# Altium integrated library Microchip Power Mgt Switching Regulator.IntLib: 268 symbols (part 6 of 6)
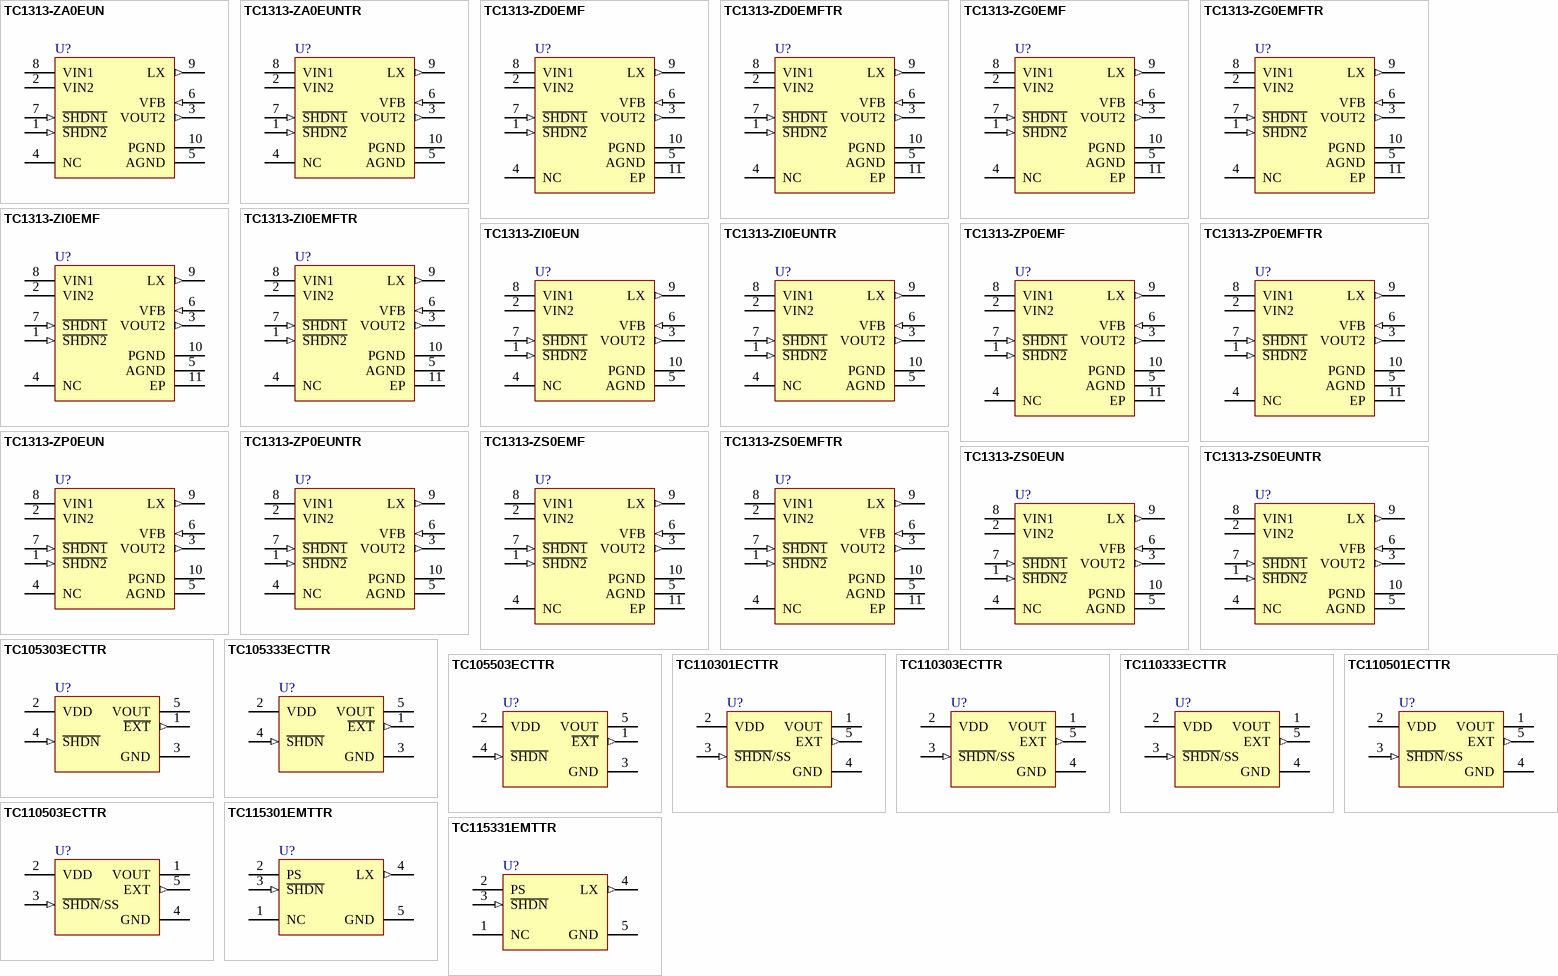
[diagram p11: symbols TC1313-ZA0EUN to TC115331EMTTR]

## TC1313-ZA0EUN
designator U?
300mA Synchronous Buck Regulator + 300mA LDO, Adjustable, 3.3V, 10-Pin MSOP, Industrial Temperature; Published: 29-Jan-2009; DatasheetVersion: revA, Jul-2005; PackageVersion: revAW, Oct-2008; PackageReference: MSOP-UN10; Publisher: Altium Limited; PackageDescription: 10-Lead Plastic Micro Small Outline Package (UN) [MSOP]; ComponentLink1Description: Manufacturer Link; ComponentLink1URL: http://www.microchip.com; ComponentLink2Description: Datasheet; ComponentLink2URL: http://ww1.microchip.com/downloads/en/DeviceDoc/21974a.pdf; ComponentLink3Description: Packaging Specification; ComponentLink3URL: http://ww1.microchip.com/downloads/en/PackagingSpec/00049AW.pdf
footprint MSOP-UN10_N (TSSOP, 10-Leads, Body 3x3mm, Pitch 0.5mm, IPC Medium Density)
footprint MSOP-UN10_L (TSSOP, 10-Leads, Body 3x3mm, Pitch 0.5mm, IPC High Density)
footprint MSOP-UN10_M (TSSOP, 10-Leads, Body 3x3mm, Pitch 0.5mm, IPC Low Density)
pins: 1 ~{SHDN2} (in), 2 VIN2 (power), 3 VOUT2 (out), 4 NC, 5 AGND (power), 6 VFB (in), 7 ~{SHDN1} (in), 8 VIN1 (power), 9 LX (out), 10 PGND (power)

## TC1313-ZA0EUNTR
designator U?
300mA Synchronous Buck Regulator + 300mA LDO, Adjustable, 3.3V, 10-Pin MSOP, Industrial Temperature, Tape and Reel; Published: 29-Jan-2009; DatasheetVersion: revA, Jul-2005; PackageVersion: revAW, Oct-2008; PackageReference: MSOP-UN10; Publisher: Altium Limited; PackageDescription: 10-Lead Plastic Micro Small Outline Package (UN) [MSOP]; ComponentLink1Description: Manufacturer Link; ComponentLink1URL: http://www.microchip.com; ComponentLink2Description: Datasheet; ComponentLink2URL: http://ww1.microchip.com/downloads/en/DeviceDoc/21974a.pdf; ComponentLink3Description: Packaging Specification; ComponentLink3URL: http://ww1.microchip.com/downloads/en/PackagingSpec/00049AW.pdf
footprint MSOP-UN10_N (TSSOP, 10-Leads, Body 3x3mm, Pitch 0.5mm, IPC Medium Density)
footprint MSOP-UN10_L (TSSOP, 10-Leads, Body 3x3mm, Pitch 0.5mm, IPC High Density)
footprint MSOP-UN10_M (TSSOP, 10-Leads, Body 3x3mm, Pitch 0.5mm, IPC Low Density)
pins: 1 ~{SHDN2} (in), 2 VIN2 (power), 3 VOUT2 (out), 4 NC, 5 AGND (power), 6 VFB (in), 7 ~{SHDN1} (in), 8 VIN1 (power), 9 LX (out), 10 PGND (power)

## TC1313-ZD0EMF
designator U?
300mA Synchronous Buck Regulator + 300mA LDO, Adjustable, 3.0V, 10-Pin DFN, Industrial Temperature; Published: 29-Jan-2009; DatasheetVersion: revA, Jul-2005; PackageVersion: revAW, Oct-2008; PackageReference: DFN-MF10; Publisher: Altium Limited; PackageDescription: 10-Lead Plastic Dual Flat, No Lead Package (MF) - 3x3x0.9mm Body [DFN]; ComponentLink1Description: Manufacturer Link; ComponentLink1URL: http://www.microchip.com; ComponentLink2Description: Datasheet; ComponentLink2URL: http://ww1.microchip.com/downloads/en/DeviceDoc/21974a.pdf; ComponentLink3Description: Packaging Specification; ComponentLink3URL: http://ww1.microchip.com/downloads/en/PackagingSpec/00049AW.pdf
footprint DFN-MF10 (SON, 10-Leads, Body 3x3mm, Pitch 0.5mm, Microchip Recommended)
pins: 1 ~{SHDN2} (in), 2 VIN2 (power), 3 VOUT2 (out), 4 NC, 5 AGND (power), 6 VFB (in), 7 ~{SHDN1} (in), 8 VIN1 (power), 9 LX (out), 10 PGND (power), 11 EP (power)

## TC1313-ZD0EMFTR
designator U?
300mA Synchronous Buck Regulator + 300mA LDO, Adjustable, 3.0V, 10-Pin DFN, Industrial Temperature, Tape and Reel; Published: 29-Jan-2009; DatasheetVersion: revA, Jul-2005; PackageVersion: revAW, Oct-2008; PackageReference: DFN-MF10; Publisher: Altium Limited; PackageDescription: 10-Lead Plastic Dual Flat, No Lead Package (MF) - 3x3x0.9mm Body [DFN]; ComponentLink1Description: Manufacturer Link; ComponentLink1URL: http://www.microchip.com; ComponentLink2Description: Datasheet; ComponentLink2URL: http://ww1.microchip.com/downloads/en/DeviceDoc/21974a.pdf; ComponentLink3Description: Packaging Specification; ComponentLink3URL: http://ww1.microchip.com/downloads/en/PackagingSpec/00049AW.pdf
footprint DFN-MF10 (SON, 10-Leads, Body 3x3mm, Pitch 0.5mm, Microchip Recommended)
pins: 1 ~{SHDN2} (in), 2 VIN2 (power), 3 VOUT2 (out), 4 NC, 5 AGND (power), 6 VFB (in), 7 ~{SHDN1} (in), 8 VIN1 (power), 9 LX (out), 10 PGND (power), 11 EP (power)

## TC1313-ZG0EMF
designator U?
300mA Synchronous Buck Regulator + 300mA LDO, Adjustable, 2.7V, 10-Pin DFN, Industrial Temperature; Published: 29-Jan-2009; DatasheetVersion: revA, Jul-2005; PackageVersion: revAW, Oct-2008; PackageReference: DFN-MF10; Publisher: Altium Limited; PackageDescription: 10-Lead Plastic Dual Flat, No Lead Package (MF) - 3x3x0.9mm Body [DFN]; ComponentLink1Description: Manufacturer Link; ComponentLink1URL: http://www.microchip.com; ComponentLink2Description: Datasheet; ComponentLink2URL: http://ww1.microchip.com/downloads/en/DeviceDoc/21974a.pdf; ComponentLink3Description: Packaging Specification; ComponentLink3URL: http://ww1.microchip.com/downloads/en/PackagingSpec/00049AW.pdf
footprint DFN-MF10 (SON, 10-Leads, Body 3x3mm, Pitch 0.5mm, Microchip Recommended)
pins: 1 ~{SHDN2} (in), 2 VIN2 (power), 3 VOUT2 (out), 4 NC, 5 AGND (power), 6 VFB (in), 7 ~{SHDN1} (in), 8 VIN1 (power), 9 LX (out), 10 PGND (power), 11 EP (power)

## TC1313-ZG0EMFTR
designator U?
300mA Synchronous Buck Regulator + 300mA LDO, Adjustable, 2.7V, 10-Pin DFN, Industrial Temperature, Tape and Reel; Published: 29-Jan-2009; DatasheetVersion: revA, Jul-2005; PackageVersion: revAW, Oct-2008; PackageReference: DFN-MF10; Publisher: Altium Limited; PackageDescription: 10-Lead Plastic Dual Flat, No Lead Package (MF) - 3x3x0.9mm Body [DFN]; ComponentLink1Description: Manufacturer Link; ComponentLink1URL: http://www.microchip.com; ComponentLink2Description: Datasheet; ComponentLink2URL: http://ww1.microchip.com/downloads/en/DeviceDoc/21974a.pdf; ComponentLink3Description: Packaging Specification; ComponentLink3URL: http://ww1.microchip.com/downloads/en/PackagingSpec/00049AW.pdf
footprint DFN-MF10 (SON, 10-Leads, Body 3x3mm, Pitch 0.5mm, Microchip Recommended)
pins: 1 ~{SHDN2} (in), 2 VIN2 (power), 3 VOUT2 (out), 4 NC, 5 AGND (power), 6 VFB (in), 7 ~{SHDN1} (in), 8 VIN1 (power), 9 LX (out), 10 PGND (power), 11 EP (power)

## TC1313-ZI0EMF
designator U?
300mA Synchronous Buck Regulator + 300mA LDO, Adjustable, 2.5V, 10-Pin DFN, Industrial Temperature; Published: 29-Jan-2009; DatasheetVersion: revA, Jul-2005; PackageVersion: revAW, Oct-2008; PackageReference: DFN-MF10; Publisher: Altium Limited; PackageDescription: 10-Lead Plastic Dual Flat, No Lead Package (MF) - 3x3x0.9mm Body [DFN]; ComponentLink1Description: Manufacturer Link; ComponentLink1URL: http://www.microchip.com; ComponentLink2Description: Datasheet; ComponentLink2URL: http://ww1.microchip.com/downloads/en/DeviceDoc/21974a.pdf; ComponentLink3Description: Packaging Specification; ComponentLink3URL: http://ww1.microchip.com/downloads/en/PackagingSpec/00049AW.pdf
footprint DFN-MF10 (SON, 10-Leads, Body 3x3mm, Pitch 0.5mm, Microchip Recommended)
pins: 1 ~{SHDN2} (in), 2 VIN2 (power), 3 VOUT2 (out), 4 NC, 5 AGND (power), 6 VFB (in), 7 ~{SHDN1} (in), 8 VIN1 (power), 9 LX (out), 10 PGND (power), 11 EP (power)

## TC1313-ZI0EMFTR
designator U?
300mA Synchronous Buck Regulator + 300mA LDO, Adjustable, 2.5V, 10-Pin DFN, Industrial Temperature, Tape and Reel; Published: 29-Jan-2009; DatasheetVersion: revA, Jul-2005; PackageVersion: revAW, Oct-2008; PackageReference: DFN-MF10; Publisher: Altium Limited; PackageDescription: 10-Lead Plastic Dual Flat, No Lead Package (MF) - 3x3x0.9mm Body [DFN]; ComponentLink1Description: Manufacturer Link; ComponentLink1URL: http://www.microchip.com; ComponentLink2Description: Datasheet; ComponentLink2URL: http://ww1.microchip.com/downloads/en/DeviceDoc/21974a.pdf; ComponentLink3Description: Packaging Specification; ComponentLink3URL: http://ww1.microchip.com/downloads/en/PackagingSpec/00049AW.pdf
footprint DFN-MF10 (SON, 10-Leads, Body 3x3mm, Pitch 0.5mm, Microchip Recommended)
pins: 1 ~{SHDN2} (in), 2 VIN2 (power), 3 VOUT2 (out), 4 NC, 5 AGND (power), 6 VFB (in), 7 ~{SHDN1} (in), 8 VIN1 (power), 9 LX (out), 10 PGND (power), 11 EP (power)

## TC1313-ZI0EUN
designator U?
300mA Synchronous Buck Regulator + 300mA LDO, Adjustable, 2.5V, 10-Pin MSOP, Industrial Temperature; Published: 29-Jan-2009; DatasheetVersion: revA, Jul-2005; PackageVersion: revAW, Oct-2008; PackageReference: MSOP-UN10; Publisher: Altium Limited; PackageDescription: 10-Lead Plastic Micro Small Outline Package (UN) [MSOP]; ComponentLink1Description: Manufacturer Link; ComponentLink1URL: http://www.microchip.com; ComponentLink2Description: Datasheet; ComponentLink2URL: http://ww1.microchip.com/downloads/en/DeviceDoc/21974a.pdf; ComponentLink3Description: Packaging Specification; ComponentLink3URL: http://ww1.microchip.com/downloads/en/PackagingSpec/00049AW.pdf
footprint MSOP-UN10_N (TSSOP, 10-Leads, Body 3x3mm, Pitch 0.5mm, IPC Medium Density)
footprint MSOP-UN10_L (TSSOP, 10-Leads, Body 3x3mm, Pitch 0.5mm, IPC High Density)
footprint MSOP-UN10_M (TSSOP, 10-Leads, Body 3x3mm, Pitch 0.5mm, IPC Low Density)
pins: 1 ~{SHDN2} (in), 2 VIN2 (power), 3 VOUT2 (out), 4 NC, 5 AGND (power), 6 VFB (in), 7 ~{SHDN1} (in), 8 VIN1 (power), 9 LX (out), 10 PGND (power)

## TC1313-ZI0EUNTR
designator U?
300mA Synchronous Buck Regulator + 300mA LDO, Adjustable, 2.5V, 10-Pin MSOP, Industrial Temperature, Tape and Reel; Published: 29-Jan-2009; DatasheetVersion: revA, Jul-2005; PackageVersion: revAW, Oct-2008; PackageReference: MSOP-UN10; Publisher: Altium Limited; PackageDescription: 10-Lead Plastic Micro Small Outline Package (UN) [MSOP]; ComponentLink1Description: Manufacturer Link; ComponentLink1URL: http://www.microchip.com; ComponentLink2Description: Datasheet; ComponentLink2URL: http://ww1.microchip.com/downloads/en/DeviceDoc/21974a.pdf; ComponentLink3Description: Packaging Specification; ComponentLink3URL: http://ww1.microchip.com/downloads/en/PackagingSpec/00049AW.pdf
footprint MSOP-UN10_N (TSSOP, 10-Leads, Body 3x3mm, Pitch 0.5mm, IPC Medium Density)
footprint MSOP-UN10_L (TSSOP, 10-Leads, Body 3x3mm, Pitch 0.5mm, IPC High Density)
footprint MSOP-UN10_M (TSSOP, 10-Leads, Body 3x3mm, Pitch 0.5mm, IPC Low Density)
pins: 1 ~{SHDN2} (in), 2 VIN2 (power), 3 VOUT2 (out), 4 NC, 5 AGND (power), 6 VFB (in), 7 ~{SHDN1} (in), 8 VIN1 (power), 9 LX (out), 10 PGND (power)

## TC1313-ZP0EMF
designator U?
300mA Synchronous Buck Regulator + 300mA LDO, Adjustable, 1.8V, 10-Pin DFN, Industrial Temperature; Published: 29-Jan-2009; DatasheetVersion: revA, Jul-2005; PackageVersion: revAW, Oct-2008; PackageReference: DFN-MF10; Publisher: Altium Limited; PackageDescription: 10-Lead Plastic Dual Flat, No Lead Package (MF) - 3x3x0.9mm Body [DFN]; ComponentLink1Description: Manufacturer Link; ComponentLink1URL: http://www.microchip.com; ComponentLink2Description: Datasheet; ComponentLink2URL: http://ww1.microchip.com/downloads/en/DeviceDoc/21974a.pdf; ComponentLink3Description: Packaging Specification; ComponentLink3URL: http://ww1.microchip.com/downloads/en/PackagingSpec/00049AW.pdf
footprint DFN-MF10 (SON, 10-Leads, Body 3x3mm, Pitch 0.5mm, Microchip Recommended)
pins: 1 ~{SHDN2} (in), 2 VIN2 (power), 3 VOUT2 (out), 4 NC, 5 AGND (power), 6 VFB (in), 7 ~{SHDN1} (in), 8 VIN1 (power), 9 LX (out), 10 PGND (power), 11 EP (power)

## TC1313-ZP0EMFTR
designator U?
300mA Synchronous Buck Regulator + 300mA LDO, Adjustable, 1.8V, 10-Pin DFN, Industrial Temperature, Tape and Reel; Published: 29-Jan-2009; DatasheetVersion: revA, Jul-2005; PackageVersion: revAW, Oct-2008; PackageReference: DFN-MF10; Publisher: Altium Limited; PackageDescription: 10-Lead Plastic Dual Flat, No Lead Package (MF) - 3x3x0.9mm Body [DFN]; ComponentLink1Description: Manufacturer Link; ComponentLink1URL: http://www.microchip.com; ComponentLink2Description: Datasheet; ComponentLink2URL: http://ww1.microchip.com/downloads/en/DeviceDoc/21974a.pdf; ComponentLink3Description: Packaging Specification; ComponentLink3URL: http://ww1.microchip.com/downloads/en/PackagingSpec/00049AW.pdf
footprint DFN-MF10 (SON, 10-Leads, Body 3x3mm, Pitch 0.5mm, Microchip Recommended)
pins: 1 ~{SHDN2} (in), 2 VIN2 (power), 3 VOUT2 (out), 4 NC, 5 AGND (power), 6 VFB (in), 7 ~{SHDN1} (in), 8 VIN1 (power), 9 LX (out), 10 PGND (power), 11 EP (power)

## TC1313-ZP0EUN
designator U?
300mA Synchronous Buck Regulator + 300mA LDO, Adjustable, 1.8V, 10-Pin MSOP, Industrial Temperature; Published: 29-Jan-2009; DatasheetVersion: revA, Jul-2005; PackageVersion: revAW, Oct-2008; PackageReference: MSOP-UN10; Publisher: Altium Limited; PackageDescription: 10-Lead Plastic Micro Small Outline Package (UN) [MSOP]; ComponentLink1Description: Manufacturer Link; ComponentLink1URL: http://www.microchip.com; ComponentLink2Description: Datasheet; ComponentLink2URL: http://ww1.microchip.com/downloads/en/DeviceDoc/21974a.pdf; ComponentLink3Description: Packaging Specification; ComponentLink3URL: http://ww1.microchip.com/downloads/en/PackagingSpec/00049AW.pdf
footprint MSOP-UN10_N (TSSOP, 10-Leads, Body 3x3mm, Pitch 0.5mm, IPC Medium Density)
footprint MSOP-UN10_L (TSSOP, 10-Leads, Body 3x3mm, Pitch 0.5mm, IPC High Density)
footprint MSOP-UN10_M (TSSOP, 10-Leads, Body 3x3mm, Pitch 0.5mm, IPC Low Density)
pins: 1 ~{SHDN2} (in), 2 VIN2 (power), 3 VOUT2 (out), 4 NC, 5 AGND (power), 6 VFB (in), 7 ~{SHDN1} (in), 8 VIN1 (power), 9 LX (out), 10 PGND (power)

## TC1313-ZP0EUNTR
designator U?
300mA Synchronous Buck Regulator + 300mA LDO, Adjustable, 1.8V, 10-Pin MSOP, Industrial Temperature, Tape and Reel; Published: 29-Jan-2009; DatasheetVersion: revA, Jul-2005; PackageVersion: revAW, Oct-2008; PackageReference: MSOP-UN10; Publisher: Altium Limited; PackageDescription: 10-Lead Plastic Micro Small Outline Package (UN) [MSOP]; ComponentLink1Description: Manufacturer Link; ComponentLink1URL: http://www.microchip.com; ComponentLink2Description: Datasheet; ComponentLink2URL: http://ww1.microchip.com/downloads/en/DeviceDoc/21974a.pdf; ComponentLink3Description: Packaging Specification; ComponentLink3URL: http://ww1.microchip.com/downloads/en/PackagingSpec/00049AW.pdf
footprint MSOP-UN10_N (TSSOP, 10-Leads, Body 3x3mm, Pitch 0.5mm, IPC Medium Density)
footprint MSOP-UN10_L (TSSOP, 10-Leads, Body 3x3mm, Pitch 0.5mm, IPC High Density)
footprint MSOP-UN10_M (TSSOP, 10-Leads, Body 3x3mm, Pitch 0.5mm, IPC Low Density)
pins: 1 ~{SHDN2} (in), 2 VIN2 (power), 3 VOUT2 (out), 4 NC, 5 AGND (power), 6 VFB (in), 7 ~{SHDN1} (in), 8 VIN1 (power), 9 LX (out), 10 PGND (power)

## TC1313-ZS0EMF
designator U?
300mA Synchronous Buck Regulator + 300mA LDO, Adjustable, 1.5V, 10-Pin DFN, Industrial Temperature; Published: 29-Jan-2009; DatasheetVersion: revA, Jul-2005; PackageVersion: revAW, Oct-2008; PackageReference: DFN-MF10; Publisher: Altium Limited; PackageDescription: 10-Lead Plastic Dual Flat, No Lead Package (MF) - 3x3x0.9mm Body [DFN]; ComponentLink1Description: Manufacturer Link; ComponentLink1URL: http://www.microchip.com; ComponentLink2Description: Datasheet; ComponentLink2URL: http://ww1.microchip.com/downloads/en/DeviceDoc/21974a.pdf; ComponentLink3Description: Packaging Specification; ComponentLink3URL: http://ww1.microchip.com/downloads/en/PackagingSpec/00049AW.pdf
footprint DFN-MF10 (SON, 10-Leads, Body 3x3mm, Pitch 0.5mm, Microchip Recommended)
pins: 1 ~{SHDN2} (in), 2 VIN2 (power), 3 VOUT2 (out), 4 NC, 5 AGND (power), 6 VFB (in), 7 ~{SHDN1} (in), 8 VIN1 (power), 9 LX (out), 10 PGND (power), 11 EP (power)

## TC1313-ZS0EMFTR
designator U?
300mA Synchronous Buck Regulator + 300mA LDO, Adjustable, 1.5V, 10-Pin DFN, Industrial Temperature, Tape and Reel; Published: 29-Jan-2009; DatasheetVersion: revA, Jul-2005; PackageVersion: revAW, Oct-2008; PackageReference: DFN-MF10; Publisher: Altium Limited; PackageDescription: 10-Lead Plastic Dual Flat, No Lead Package (MF) - 3x3x0.9mm Body [DFN]; ComponentLink1Description: Manufacturer Link; ComponentLink1URL: http://www.microchip.com; ComponentLink2Description: Datasheet; ComponentLink2URL: http://ww1.microchip.com/downloads/en/DeviceDoc/21974a.pdf; ComponentLink3Description: Packaging Specification; ComponentLink3URL: http://ww1.microchip.com/downloads/en/PackagingSpec/00049AW.pdf
footprint DFN-MF10 (SON, 10-Leads, Body 3x3mm, Pitch 0.5mm, Microchip Recommended)
pins: 1 ~{SHDN2} (in), 2 VIN2 (power), 3 VOUT2 (out), 4 NC, 5 AGND (power), 6 VFB (in), 7 ~{SHDN1} (in), 8 VIN1 (power), 9 LX (out), 10 PGND (power), 11 EP (power)

## TC1313-ZS0EUN
designator U?
300mA Synchronous Buck Regulator + 300mA LDO, Adjustable, 1.5V, 10-Pin MSOP, Industrial Temperature; Published: 29-Jan-2009; DatasheetVersion: revA, Jul-2005; PackageVersion: revAW, Oct-2008; PackageReference: MSOP-UN10; Publisher: Altium Limited; PackageDescription: 10-Lead Plastic Micro Small Outline Package (UN) [MSOP]; ComponentLink1Description: Manufacturer Link; ComponentLink1URL: http://www.microchip.com; ComponentLink2Description: Datasheet; ComponentLink2URL: http://ww1.microchip.com/downloads/en/DeviceDoc/21974a.pdf; ComponentLink3Description: Packaging Specification; ComponentLink3URL: http://ww1.microchip.com/downloads/en/PackagingSpec/00049AW.pdf
footprint MSOP-UN10_N (TSSOP, 10-Leads, Body 3x3mm, Pitch 0.5mm, IPC Medium Density)
footprint MSOP-UN10_L (TSSOP, 10-Leads, Body 3x3mm, Pitch 0.5mm, IPC High Density)
footprint MSOP-UN10_M (TSSOP, 10-Leads, Body 3x3mm, Pitch 0.5mm, IPC Low Density)
pins: 1 ~{SHDN2} (in), 2 VIN2 (power), 3 VOUT2 (out), 4 NC, 5 AGND (power), 6 VFB (in), 7 ~{SHDN1} (in), 8 VIN1 (power), 9 LX (out), 10 PGND (power)

## TC1313-ZS0EUNTR
designator U?
300mA Synchronous Buck Regulator + 300mA LDO, Adjustable, 1.5V, 10-Pin MSOP, Industrial Temperature, Tape and Reel; Published: 29-Jan-2009; DatasheetVersion: revA, Jul-2005; PackageVersion: revAW, Oct-2008; PackageReference: MSOP-UN10; Publisher: Altium Limited; PackageDescription: 10-Lead Plastic Micro Small Outline Package (UN) [MSOP]; ComponentLink1Description: Manufacturer Link; ComponentLink1URL: http://www.microchip.com; ComponentLink2Description: Datasheet; ComponentLink2URL: http://ww1.microchip.com/downloads/en/DeviceDoc/21974a.pdf; ComponentLink3Description: Packaging Specification; ComponentLink3URL: http://ww1.microchip.com/downloads/en/PackagingSpec/00049AW.pdf
footprint MSOP-UN10_N (TSSOP, 10-Leads, Body 3x3mm, Pitch 0.5mm, IPC Medium Density)
footprint MSOP-UN10_L (TSSOP, 10-Leads, Body 3x3mm, Pitch 0.5mm, IPC High Density)
footprint MSOP-UN10_M (TSSOP, 10-Leads, Body 3x3mm, Pitch 0.5mm, IPC Low Density)
pins: 1 ~{SHDN2} (in), 2 VIN2 (power), 3 VOUT2 (out), 4 NC, 5 AGND (power), 6 VFB (in), 7 ~{SHDN1} (in), 8 VIN1 (power), 9 LX (out), 10 PGND (power)

## TC105303ECTTR
designator U?
PFM/PWM Step-Down DC/DC Controller, 1A, 3.0V, 300kHz, 5-Pin SOT-23, Industrial Temperature, Tape and Reel; Published: 29-Jan-2009; DatasheetVersion: revB, Feb-2003; PackageVersion: revAW, Oct-2008; PackageReference: SOT-23-CT5; Publisher: Altium Limited; PackageDescription: 5-Lead Plastic Small Outline Transistor (CT) [SOT-23]; Code_IPC: SOT23-5; ComponentLink1Description: Manufacturer Link; ComponentLink1URL: http://www.microchip.com; ComponentLink2Description: Datasheet; ComponentLink2URL: http://ww1.microchip.com/downloads/en/DeviceDoc/21349b.pdf; ComponentLink3Description: Packaging Specification; ComponentLink3URL: http://ww1.microchip.com/downloads/en/PackagingSpec/00049AW.pdf
footprint SOT-23-CT5_N (SOT23, 5-Leads, Body 2.9x1.6mm, Pitch 0.95mm, Lead Span 2.7mm, IPC Medium Density)
footprint SOT-23-CT5_L (SOT23, 5-Leads, Body 2.9x1.6mm, Pitch 0.95mm, Lead Span 2.7mm, IPC High Density)
footprint SOT-23-CT5_M (SOT23, 5-Leads, Body 2.9x1.6mm, Pitch 0.95mm, Lead Span 2.7mm, IPC Low Density)
pins: 1 ~{EXT} (out), 2 VDD (power), 3 GND (power), 4 ~{SHDN} (in), 5 VOUT (power)

## TC105333ECTTR
designator U?
PFM/PWM Step-Down DC/DC Controller, 1A, 3.3V, 300kHz, 5-Pin SOT-23, Industrial Temperature, Tape and Reel; Published: 29-Jan-2009; DatasheetVersion: revB, Feb-2003; PackageVersion: revAW, Oct-2008; PackageReference: SOT-23-CT5; Publisher: Altium Limited; PackageDescription: 5-Lead Plastic Small Outline Transistor (CT) [SOT-23]; Code_IPC: SOT23-5; ComponentLink1Description: Manufacturer Link; ComponentLink1URL: http://www.microchip.com; ComponentLink2Description: Datasheet; ComponentLink2URL: http://ww1.microchip.com/downloads/en/DeviceDoc/21349b.pdf; ComponentLink3Description: Packaging Specification; ComponentLink3URL: http://ww1.microchip.com/downloads/en/PackagingSpec/00049AW.pdf
footprint SOT-23-CT5_N (SOT23, 5-Leads, Body 2.9x1.6mm, Pitch 0.95mm, Lead Span 2.7mm, IPC Medium Density)
footprint SOT-23-CT5_L (SOT23, 5-Leads, Body 2.9x1.6mm, Pitch 0.95mm, Lead Span 2.7mm, IPC High Density)
footprint SOT-23-CT5_M (SOT23, 5-Leads, Body 2.9x1.6mm, Pitch 0.95mm, Lead Span 2.7mm, IPC Low Density)
pins: 1 ~{EXT} (out), 2 VDD (power), 3 GND (power), 4 ~{SHDN} (in), 5 VOUT (power)

## TC105503ECTTR
designator U?
PFM/PWM Step-Down DC/DC Controller, 1A, 5.0V, 300kHz, 5-Pin SOT-23, Industrial Temperature, Tape and Reel; Published: 29-Jan-2009; DatasheetVersion: revB, Feb-2003; PackageVersion: revAW, Oct-2008; PackageReference: SOT-23-CT5; Publisher: Altium Limited; PackageDescription: 5-Lead Plastic Small Outline Transistor (CT) [SOT-23]; Code_IPC: SOT23-5; ComponentLink1Description: Manufacturer Link; ComponentLink1URL: http://www.microchip.com; ComponentLink2Description: Datasheet; ComponentLink2URL: http://ww1.microchip.com/downloads/en/DeviceDoc/21349b.pdf; ComponentLink3Description: Packaging Specification; ComponentLink3URL: http://ww1.microchip.com/downloads/en/PackagingSpec/00049AW.pdf
footprint SOT-23-CT5_N (SOT23, 5-Leads, Body 2.9x1.6mm, Pitch 0.95mm, Lead Span 2.7mm, IPC Medium Density)
footprint SOT-23-CT5_L (SOT23, 5-Leads, Body 2.9x1.6mm, Pitch 0.95mm, Lead Span 2.7mm, IPC High Density)
footprint SOT-23-CT5_M (SOT23, 5-Leads, Body 2.9x1.6mm, Pitch 0.95mm, Lead Span 2.7mm, IPC Low Density)
pins: 1 ~{EXT} (out), 2 VDD (power), 3 GND (power), 4 ~{SHDN} (in), 5 VOUT (power)

## TC110301ECTTR
designator U?
PFM/PWM Step-Up DC/DC Controller, 3.0V, 100kHz, 5-Pin SOT-23, Industrial Temperature, Tape and Reel; Published: 29-Jan-2009; DatasheetVersion: revB, Feb-2003; PackageVersion: revAW, Oct-2008; PackageReference: SOT-23-CT5; Publisher: Altium Limited; PackageDescription: 5-Lead Plastic Small Outline Transistor (CT) [SOT-23]; Code_IPC: SOT23-5; ComponentLink1Description: Manufacturer Link; ComponentLink1URL: http://www.microchip.com; ComponentLink2Description: Datasheet; ComponentLink2URL: http://ww1.microchip.com/downloads/en/DeviceDoc/21355b.pdf; ComponentLink3Description: Packaging Specification; ComponentLink3URL: http://ww1.microchip.com/downloads/en/PackagingSpec/00049AW.pdf
footprint SOT-23-CT5_N (SOT23, 5-Leads, Body 2.9x1.6mm, Pitch 0.95mm, Lead Span 2.7mm, IPC Medium Density)
footprint SOT-23-CT5_L (SOT23, 5-Leads, Body 2.9x1.6mm, Pitch 0.95mm, Lead Span 2.7mm, IPC High Density)
footprint SOT-23-CT5_M (SOT23, 5-Leads, Body 2.9x1.6mm, Pitch 0.95mm, Lead Span 2.7mm, IPC Low Density)
pins: 1 VOUT (power), 2 VDD (power), 3 ~{SHDN}/SS (in), 4 GND (power), 5 EXT (out)

## TC110303ECTTR
designator U?
PFM/PWM Step-Up DC/DC Controller, 3.0V, 300kHz, 5-Pin SOT-23, Industrial Temperature, Tape and Reel; Published: 29-Jan-2009; DatasheetVersion: revB, Feb-2003; PackageVersion: revAW, Oct-2008; PackageReference: SOT-23-CT5; Publisher: Altium Limited; PackageDescription: 5-Lead Plastic Small Outline Transistor (CT) [SOT-23]; Code_IPC: SOT23-5; ComponentLink1Description: Manufacturer Link; ComponentLink1URL: http://www.microchip.com; ComponentLink2Description: Datasheet; ComponentLink2URL: http://ww1.microchip.com/downloads/en/DeviceDoc/21355b.pdf; ComponentLink3Description: Packaging Specification; ComponentLink3URL: http://ww1.microchip.com/downloads/en/PackagingSpec/00049AW.pdf
footprint SOT-23-CT5_N (SOT23, 5-Leads, Body 2.9x1.6mm, Pitch 0.95mm, Lead Span 2.7mm, IPC Medium Density)
footprint SOT-23-CT5_L (SOT23, 5-Leads, Body 2.9x1.6mm, Pitch 0.95mm, Lead Span 2.7mm, IPC High Density)
footprint SOT-23-CT5_M (SOT23, 5-Leads, Body 2.9x1.6mm, Pitch 0.95mm, Lead Span 2.7mm, IPC Low Density)
pins: 1 VOUT (power), 2 VDD (power), 3 ~{SHDN}/SS (in), 4 GND (power), 5 EXT (out)

## TC110333ECTTR
designator U?
PFM/PWM Step-Up DC/DC Controller, 3.3V, 300kHz, 5-Pin SOT-23, Industrial Temperature, Tape and Reel; Published: 29-Jan-2009; DatasheetVersion: revB, Feb-2003; PackageVersion: revAW, Oct-2008; PackageReference: SOT-23-CT5; Publisher: Altium Limited; PackageDescription: 5-Lead Plastic Small Outline Transistor (CT) [SOT-23]; Code_IPC: SOT23-5; ComponentLink1Description: Manufacturer Link; ComponentLink1URL: http://www.microchip.com; ComponentLink2Description: Datasheet; ComponentLink2URL: http://ww1.microchip.com/downloads/en/DeviceDoc/21355b.pdf; ComponentLink3Description: Packaging Specification; ComponentLink3URL: http://ww1.microchip.com/downloads/en/PackagingSpec/00049AW.pdf
footprint SOT-23-CT5_N (SOT23, 5-Leads, Body 2.9x1.6mm, Pitch 0.95mm, Lead Span 2.7mm, IPC Medium Density)
footprint SOT-23-CT5_L (SOT23, 5-Leads, Body 2.9x1.6mm, Pitch 0.95mm, Lead Span 2.7mm, IPC High Density)
footprint SOT-23-CT5_M (SOT23, 5-Leads, Body 2.9x1.6mm, Pitch 0.95mm, Lead Span 2.7mm, IPC Low Density)
pins: 1 VOUT (power), 2 VDD (power), 3 ~{SHDN}/SS (in), 4 GND (power), 5 EXT (out)

## TC110501ECTTR
designator U?
PFM/PWM Step-Up DC/DC Controller, 5.0V, 100kHz, 5-Pin SOT-23, Industrial Temperature, Tape and Reel; Published: 29-Jan-2009; DatasheetVersion: revB, Feb-2003; PackageVersion: revAW, Oct-2008; PackageReference: SOT-23-CT5; Publisher: Altium Limited; PackageDescription: 5-Lead Plastic Small Outline Transistor (CT) [SOT-23]; Code_IPC: SOT23-5; ComponentLink1Description: Manufacturer Link; ComponentLink1URL: http://www.microchip.com; ComponentLink2Description: Datasheet; ComponentLink2URL: http://ww1.microchip.com/downloads/en/DeviceDoc/21355b.pdf; ComponentLink3Description: Packaging Specification; ComponentLink3URL: http://ww1.microchip.com/downloads/en/PackagingSpec/00049AW.pdf
footprint SOT-23-CT5_N (SOT23, 5-Leads, Body 2.9x1.6mm, Pitch 0.95mm, Lead Span 2.7mm, IPC Medium Density)
footprint SOT-23-CT5_L (SOT23, 5-Leads, Body 2.9x1.6mm, Pitch 0.95mm, Lead Span 2.7mm, IPC High Density)
footprint SOT-23-CT5_M (SOT23, 5-Leads, Body 2.9x1.6mm, Pitch 0.95mm, Lead Span 2.7mm, IPC Low Density)
pins: 1 VOUT (power), 2 VDD (power), 3 ~{SHDN}/SS (in), 4 GND (power), 5 EXT (out)

## TC110503ECTTR
designator U?
PFM/PWM Step-Up DC/DC Controller, 5.0V, 300kHz, 5-Pin SOT-23, Industrial Temperature, Tape and Reel; Published: 29-Jan-2009; DatasheetVersion: revB, Feb-2003; PackageVersion: revAW, Oct-2008; PackageReference: SOT-23-CT5; Publisher: Altium Limited; PackageDescription: 5-Lead Plastic Small Outline Transistor (CT) [SOT-23]; Code_IPC: SOT23-5; ComponentLink1Description: Manufacturer Link; ComponentLink1URL: http://www.microchip.com; ComponentLink2Description: Datasheet; ComponentLink2URL: http://ww1.microchip.com/downloads/en/DeviceDoc/21355b.pdf; ComponentLink3Description: Packaging Specification; ComponentLink3URL: http://ww1.microchip.com/downloads/en/PackagingSpec/00049AW.pdf
footprint SOT-23-CT5_N (SOT23, 5-Leads, Body 2.9x1.6mm, Pitch 0.95mm, Lead Span 2.7mm, IPC Medium Density)
footprint SOT-23-CT5_L (SOT23, 5-Leads, Body 2.9x1.6mm, Pitch 0.95mm, Lead Span 2.7mm, IPC High Density)
footprint SOT-23-CT5_M (SOT23, 5-Leads, Body 2.9x1.6mm, Pitch 0.95mm, Lead Span 2.7mm, IPC Low Density)
pins: 1 VOUT (power), 2 VDD (power), 3 ~{SHDN}/SS (in), 4 GND (power), 5 EXT (out)

## TC115301EMTTR
designator U?
PFM/PWM Step-Up DC/DC Converter, 3.0V, 100kHz, 5-Pin SOT-89, Industrial Temperature, Tape and Reel; Published: 29-Jan-2009; DatasheetVersion: revC, May-2003; PackageVersion: revAW, Oct-2008; PackageReference: SOT-89-MT5; Publisher: Altium Limited; PackageDescription: 5-Lead Plastic Small Outline Transistor Header (MT) [SOT-89]; ComponentLink1Description: Manufacturer Link; ComponentLink1URL: http://www.microchip.com; ComponentLink2Description: Datasheet; ComponentLink2URL: http://ww1.microchip.com/downloads/en/DeviceDoc/21361c.pdf; ComponentLink3Description: Packaging Specification; ComponentLink3URL: http://ww1.microchip.com/downloads/en/PackagingSpec/00049AW.pdf
footprint SOT-89-MT5_N (SOT89, 5-Leads, Body 4.5x2.4 mm, Pitch 1.5mm, Lead Span 4.2mm, IPC Medium Density)
footprint SOT-89-MT5_L (SOT89, 5-Leads, Body 4.5x2.4 mm, Pitch 1.5mm, Lead Span 4.2mm, IPC High Density)
footprint SOT-89-MT5_M (SOT89, 5-Leads, Body 4.5x2.4 mm, Pitch 1.5mm, Lead Span 4.2mm, IPC Low Density)
pins: 1 NC, 2 PS (power), 3 ~{SHDN} (in), 4 LX (out), 5 GND (power)

## TC115331EMTTR
designator U?
PFM/PWM Step-Up DC/DC Converter, 3.3V, 100kHz, 5-Pin SOT-89, Industrial Temperature, Tape and Reel; Published: 29-Jan-2009; DatasheetVersion: revC, May-2003; PackageVersion: revAW, Oct-2008; PackageReference: SOT-89-MT5; Publisher: Altium Limited; PackageDescription: 5-Lead Plastic Small Outline Transistor Header (MT) [SOT-89]; ComponentLink1Description: Manufacturer Link; ComponentLink1URL: http://www.microchip.com; ComponentLink2Description: Datasheet; ComponentLink2URL: http://ww1.microchip.com/downloads/en/DeviceDoc/21361c.pdf; ComponentLink3Description: Packaging Specification; ComponentLink3URL: http://ww1.microchip.com/downloads/en/PackagingSpec/00049AW.pdf
footprint SOT-89-MT5_N (SOT89, 5-Leads, Body 4.5x2.4 mm, Pitch 1.5mm, Lead Span 4.2mm, IPC Medium Density)
footprint SOT-89-MT5_L (SOT89, 5-Leads, Body 4.5x2.4 mm, Pitch 1.5mm, Lead Span 4.2mm, IPC High Density)
footprint SOT-89-MT5_M (SOT89, 5-Leads, Body 4.5x2.4 mm, Pitch 1.5mm, Lead Span 4.2mm, IPC Low Density)
pins: 1 NC, 2 PS (power), 3 ~{SHDN} (in), 4 LX (out), 5 GND (power)